# Altium integrated library Allegro Analog Timer Circuit.IntLib: 1 symbol
Pins are listed as number, name and electrical type; pins without a type are passive.

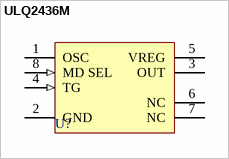
[diagram p0: symbol ULQ2436M]

## ULQ2436M
designator U?
Countdown Power Timer; ComponentAvailability: Obsolete; Published: 13-Oct-2000; LatestRevisionDate: 06-Jun-2005; LatestRevisionNote: Stylized 3D Model Added.; DatasheetVersion: 1995; PackageVersion: 1995; PackageReference: M8; Publisher: Altium Limited; PackageDescription: DIP; 8 Leads; Row Spacing 7.62 mm; Pitch 2.54 mm; ComponentLink1Description: Manufacturer Link; ComponentLink1URL: http://www.allegromicro.com/; ComponentLink2Description: Datasheet; ComponentLink2URL: http://www.allegromicro.com/datafile/archive/2436.pdf
footprint M8 (DIP; 8 Leads; Row Spacing 7.62 mm; Pitch 2.54 mm)
3D model M8 (DIP; 8 Leads; Row Spacing 7.62 mm; Pitch 2.54 mm)
pins: 1 OSC, 2 GND (power), 3 OUT (oc), 4 TG (in), 5 VREG (power), 6 NC, 7 NC, 8 MD SEL (in)